# EAGLE library part HEADER-16-3.5 (library BMS)
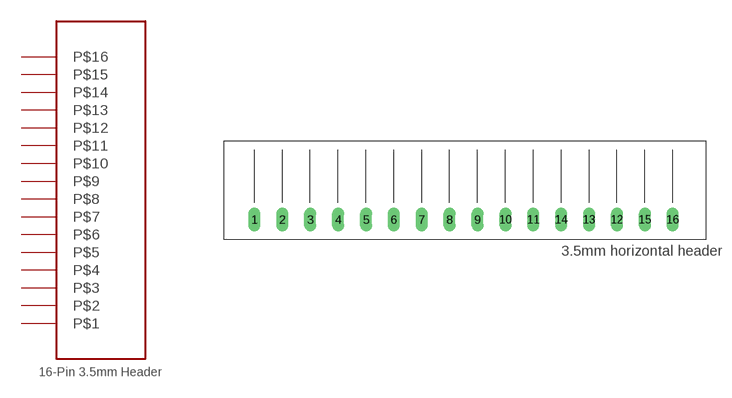
[diagram p2: symbol with the pads of 16PIN-HEADER-90; footprint 16PIN-HEADER-90]

Designator prefix -

## HEADER-16-3.5  [16PIN-HEADER-90]
1  P$1
2  P$2
3  P$3
4  P$4
5  P$5
6  P$6
7  P$7
8  P$8
9  P$9
10  P$10
11  P$11
12  P$12
13  P$13
14  P$14
15  P$15
16  P$16

## Footprint 16PIN-HEADER-90 (pad centres in mm)
drill 1.016 long: 1 1.75,2.45; 2 5.25,2.45; 3 8.75,2.45; 4 12.25,2.45; 5 15.75,2.45; 6 19.25,2.45; 7 22.75,2.45; 8 26.25,2.45; 9 29.75,2.45; 10 33.25,2.45; 11 36.75,2.45; 12 47.25,2.45; 13 43.75,2.45; 14 40.25,2.45; 15 50.75,2.45; 16 54.25,2.45